# Altium schematic symbol library diode.SchLib: 8 symbols
Pins are listed as number, name and electrical type; pins without a type are passive.

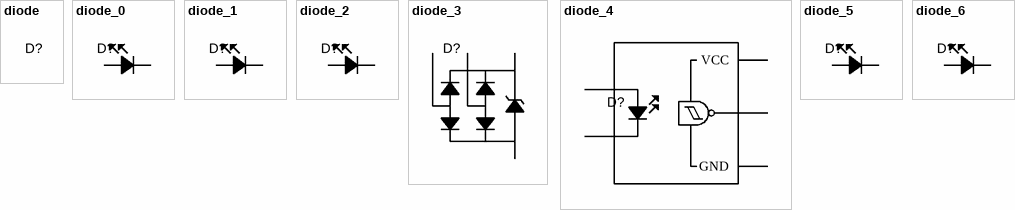
[diagram p0: symbols diode to diode_6]

## diode
designator D?
Template

## diode_0
designator D?, comment LED Red  (value not drawn)
LED 0603 red
footprint LED 0603 red
pins: 1, 2

## diode_1
designator D?, comment LED Green  (value not drawn)
LED 0603 green
footprint LED 0603 green
pins: 1, 2

## diode_2
designator D?, comment LED Blue  (value not drawn)
LED 0603 blue
footprint LED 0603 blue
pins: 1, 2

## diode_3
designator D?
TVS, 2 channels, standoff 3.3V,  diode array with avalanche diode; Manufacturer 1: ON Semiconductor; Manufacturer Part Number 1: CM1293A-02SR; Clamping voltage: 9.9V; Peak current: 1A; Supplier 1: Digi-Key; Supplier Part Number 1: CM1293A-02SROSCT-ND; Reverse standoff: 3.3V; Link: https://www.digikey.no/product-detail/en/on-semiconductor/CM1293A-02SR/CM1293A-02SROSCT-ND/3487527
footprint CM1293A-02SR (SOT143, 4-Leads, Body 2.93x2.64mm, Pitch 1.90mm, IPC Medium Density)
pins: 1, 2, 3, 4

## diode_4
designator D?
Optoisolator, 4kV isolation; Manufacturer 1: onsemi; Manufacturer Part Number 1: H11L1SM; Supplier 1: Digi-Key; Supplier Part Number 1: H11L1SM-ND; Link: https://www.digikey.no/product-detail/en/onsemi/H11L1SM/H11L1SM-ND/400369
footprint H11L1SM
pins: 1, 2, 4, 5 GND, 6 VCC

## diode_5
designator D?, comment LED Yellow  (value not drawn)
LED 0603 yellow
footprint LED 0603 yellow
pins: 1, 2

## diode_6
designator D?, comment LED White  (value not drawn)
LED 0603 white
footprint LED 0603 white
pins: 1, 2